# Altium integrated library CAP-CSGP_rev15b.intlib: 820 symbols (part 9 of 9)
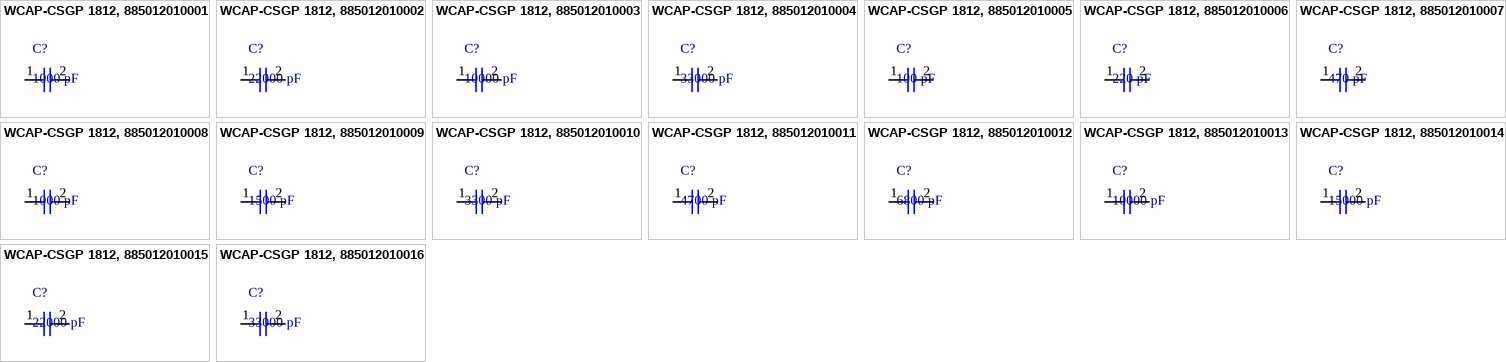
[diagram p36: symbols WCAP-CSGP 1812, 885012010001 to WCAP-CSGP 1812, 885012010016]

## WCAP-CSGP 1812, 885012010001
designator C?, comment 1000 pF
WCAP-CSGP MLCC, NP0, 1812, 1000 pF,16Vdc; Manufacturer: Wurth Elektronik; partNo: 885012010001; E-mail: libraries@we-online.com; ComponentLink1Description: Manufacturer; ComponentLink1URL: http://www.we-online.com; ComponentLink2Description: Datasheet; ComponentLink2URL: http://katalog.we-online.de/pbs/datasheet/885012010001.pdf; Created by: Karrer Zheng; Created Date: 3/9/2015; Capacitance: 1000 pF
footprint WCAP-CSGP 1812, H=1.25mm
pins: 1, 2

## WCAP-CSGP 1812, 885012010002
designator C?, comment 22000 pF
WCAP-CSGP MLCC, NP0, 1812, 22000 pF,16Vdc; Manufacturer: Wurth Elektronik; partNo: 885012010002; E-mail: libraries@we-online.com; ComponentLink1Description: Manufacturer; ComponentLink1URL: http://www.we-online.com; ComponentLink2Description: Datasheet; ComponentLink2URL: http://katalog.we-online.de/pbs/datasheet/885012010002.pdf; Created by: Karrer Zheng; Created Date: 3/9/2015; Capacitance: 22000 pF
footprint WCAP-CSGP 1812, H=1.25mm
pins: 1, 2

## WCAP-CSGP 1812, 885012010003
designator C?, comment 10000 pF
WCAP-CSGP MLCC, NP0, 1812, 10000 pF,25Vdc; Manufacturer: Wurth Elektronik; partNo: 885012010003; E-mail: libraries@we-online.com; ComponentLink1Description: Manufacturer; ComponentLink1URL: http://www.we-online.com; ComponentLink2Description: Datasheet; ComponentLink2URL: http://katalog.we-online.de/pbs/datasheet/885012010003.pdf; Created by: Karrer Zheng; Created Date: 3/9/2015; Capacitance: 10000 pF
footprint WCAP-CSGP 1812, H=1.25mm
pins: 1, 2

## WCAP-CSGP 1812, 885012010004
designator C?, comment 33000 pF
WCAP-CSGP MLCC, NP0, 1812, 33000 pF,25Vdc; Manufacturer: Wurth Elektronik; partNo: 885012010004; E-mail: libraries@we-online.com; ComponentLink1Description: Manufacturer; ComponentLink1URL: http://www.we-online.com; ComponentLink2Description: Datasheet; ComponentLink2URL: http://katalog.we-online.de/pbs/datasheet/885012010004.pdf; Created by: Karrer Zheng; Created Date: 3/9/2015; Capacitance: 33000 pF
footprint WCAP-CSGP 1812, H=1.25mm
pins: 1, 2

## WCAP-CSGP 1812, 885012010005
designator C?, comment 100 pF
WCAP-CSGP MLCC, NP0, 1812, 100 pF,50Vdc; Manufacturer: Wurth Elektronik; partNo: 885012010005; E-mail: libraries@we-online.com; ComponentLink1Description: Manufacturer; ComponentLink1URL: http://www.we-online.com; ComponentLink2Description: Datasheet; ComponentLink2URL: http://katalog.we-online.de/pbs/datasheet/885012010005.pdf; Created by: Karrer Zheng; Created Date: 3/9/2015; Capacitance: 100 pF
footprint WCAP-CSGP 1812, H=1.25mm
pins: 1, 2

## WCAP-CSGP 1812, 885012010006
designator C?, comment 220 pF
WCAP-CSGP MLCC, NP0, 1812, 220 pF,50Vdc; Manufacturer: Wurth Elektronik; partNo: 885012010006; E-mail: libraries@we-online.com; ComponentLink1Description: Manufacturer; ComponentLink1URL: http://www.we-online.com; ComponentLink2Description: Datasheet; ComponentLink2URL: http://katalog.we-online.de/pbs/datasheet/885012010006.pdf; Created by: Karrer Zheng; Created Date: 3/9/2015; Capacitance: 220 pF
footprint WCAP-CSGP 1812, H=1.25mm
pins: 1, 2

## WCAP-CSGP 1812, 885012010007
designator C?, comment 470 pF
WCAP-CSGP MLCC, NP0, 1812, 470 pF,50Vdc; Manufacturer: Wurth Elektronik; partNo: 885012010007; E-mail: libraries@we-online.com; ComponentLink1Description: Manufacturer; ComponentLink1URL: http://www.we-online.com; ComponentLink2Description: Datasheet; ComponentLink2URL: http://katalog.we-online.de/pbs/datasheet/885012010007.pdf; Created by: Karrer Zheng; Created Date: 3/9/2015; Capacitance: 470 pF
footprint WCAP-CSGP 1812, H=1.25mm
pins: 1, 2

## WCAP-CSGP 1812, 885012010008
designator C?, comment 1000 pF
WCAP-CSGP MLCC, NP0, 1812, 1000 pF,50Vdc; Manufacturer: Wurth Elektronik; partNo: 885012010008; E-mail: libraries@we-online.com; ComponentLink1Description: Manufacturer; ComponentLink1URL: http://www.we-online.com; ComponentLink2Description: Datasheet; ComponentLink2URL: http://katalog.we-online.de/pbs/datasheet/885012010008.pdf; Created by: Karrer Zheng; Created Date: 3/9/2015; Capacitance: 1000 pF
footprint WCAP-CSGP 1812, H=1.25mm
pins: 1, 2

## WCAP-CSGP 1812, 885012010009
designator C?, comment 1500 pF
WCAP-CSGP MLCC, NP0, 1812, 1500 pF,50Vdc; Manufacturer: Wurth Elektronik; partNo: 885012010009; E-mail: libraries@we-online.com; ComponentLink1Description: Manufacturer; ComponentLink1URL: http://www.we-online.com; ComponentLink2Description: Datasheet; ComponentLink2URL: http://katalog.we-online.de/pbs/datasheet/885012010009.pdf; Created by: Karrer Zheng; Created Date: 3/9/2015; Capacitance: 1500 pF
footprint WCAP-CSGP 1812, H=1.25mm
pins: 1, 2

## WCAP-CSGP 1812, 885012010010
designator C?, comment 3300 pF
WCAP-CSGP MLCC, NP0, 1812, 3300 pF,50Vdc; Manufacturer: Wurth Elektronik; partNo: 885012010010; E-mail: libraries@we-online.com; ComponentLink1Description: Manufacturer; ComponentLink1URL: http://www.we-online.com; ComponentLink2Description: Datasheet; ComponentLink2URL: http://katalog.we-online.de/pbs/datasheet/885012010010.pdf; Created by: Karrer Zheng; Created Date: 3/9/2015; Capacitance: 3300 pF
footprint WCAP-CSGP 1812, H=1.25mm
pins: 1, 2

## WCAP-CSGP 1812, 885012010011
designator C?, comment 4700 pF
WCAP-CSGP MLCC, NP0, 1812, 4700 pF,50Vdc; Manufacturer: Wurth Elektronik; partNo: 885012010011; E-mail: libraries@we-online.com; ComponentLink1Description: Manufacturer; ComponentLink1URL: http://www.we-online.com; ComponentLink2Description: Datasheet; ComponentLink2URL: http://katalog.we-online.de/pbs/datasheet/885012010011.pdf; Created by: Karrer Zheng; Created Date: 3/9/2015; Capacitance: 4700 pF
footprint WCAP-CSGP 1812, H=1.25mm
pins: 1, 2

## WCAP-CSGP 1812, 885012010012
designator C?, comment 6800 pF
WCAP-CSGP MLCC, NP0, 1812, 6800 pF,50Vdc; Manufacturer: Wurth Elektronik; partNo: 885012010012; E-mail: libraries@we-online.com; ComponentLink1Description: Manufacturer; ComponentLink1URL: http://www.we-online.com; ComponentLink2Description: Datasheet; ComponentLink2URL: http://katalog.we-online.de/pbs/datasheet/885012010012.pdf; Created by: Karrer Zheng; Created Date: 3/9/2015; Capacitance: 6800 pF
footprint WCAP-CSGP 1812, H=1.25mm
pins: 1, 2

## WCAP-CSGP 1812, 885012010013
designator C?, comment 10000 pF
WCAP-CSGP MLCC, NP0, 1812, 10000 pF,50Vdc; Manufacturer: Wurth Elektronik; partNo: 885012010013; E-mail: libraries@we-online.com; ComponentLink1Description: Manufacturer; ComponentLink1URL: http://www.we-online.com; ComponentLink2Description: Datasheet; ComponentLink2URL: http://katalog.we-online.de/pbs/datasheet/885012010013.pdf; Created by: Karrer Zheng; Created Date: 3/9/2015; Capacitance: 10000 pF
footprint WCAP-CSGP 1812, H=1.25mm
pins: 1, 2

## WCAP-CSGP 1812, 885012010014
designator C?, comment 15000 pF
WCAP-CSGP MLCC, NP0, 1812, 15000 pF,50Vdc; Manufacturer: Wurth Elektronik; partNo: 885012010014; E-mail: libraries@we-online.com; ComponentLink1Description: Manufacturer; ComponentLink1URL: http://www.we-online.com; ComponentLink2Description: Datasheet; ComponentLink2URL: http://katalog.we-online.de/pbs/datasheet/885012010014.pdf; Created by: Karrer Zheng; Created Date: 3/9/2015; Capacitance: 15000 pF
footprint WCAP-CSGP 1812, H=1.25mm
pins: 1, 2

## WCAP-CSGP 1812, 885012010015
designator C?, comment 22000 pF
WCAP-CSGP MLCC, NP0, 1812, 22000 pF,50Vdc; Manufacturer: Wurth Elektronik; partNo: 885012010015; E-mail: libraries@we-online.com; ComponentLink1Description: Manufacturer; ComponentLink1URL: http://www.we-online.com; ComponentLink2Description: Datasheet; ComponentLink2URL: http://katalog.we-online.de/pbs/datasheet/885012010015.pdf; Created by: Karrer Zheng; Created Date: 3/9/2015; Capacitance: 22000 pF
footprint WCAP-CSGP 1812, H=1.25mm
pins: 1, 2

## WCAP-CSGP 1812, 885012010016
designator C?, comment 33000 pF
WCAP-CSGP MLCC, NP0, 1812, 33000 pF,50Vdc; Manufacturer: Wurth Elektronik; partNo: 885012010016; E-mail: libraries@we-online.com; ComponentLink1Description: Manufacturer; ComponentLink1URL: http://www.we-online.com; ComponentLink2Description: Datasheet; ComponentLink2URL: http://katalog.we-online.de/pbs/datasheet/885012010016.pdf; Created by: Karrer Zheng; Created Date: 3/9/2015; Capacitance: 33000 pF
footprint WCAP-CSGP 1812, H=1.25mm
pins: 1, 2


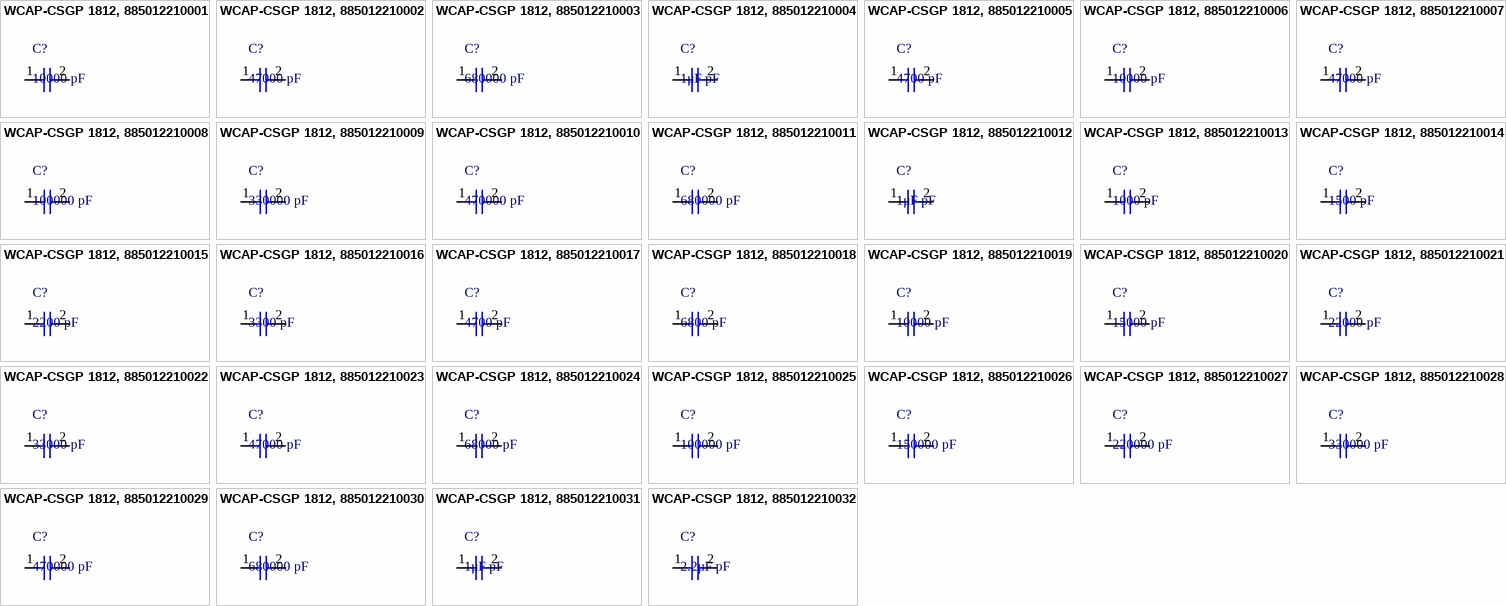
[diagram p28: symbols WCAP-CSGP 1812, 885012210001 to WCAP-CSGP 1812, 885012210032]

## WCAP-CSGP 1812, 885012210001
designator C?, comment 10000 pF
WCAP-CSGP MLCC, X7R, 1812, 10000 pF,16Vdc; Manufacturer: Wurth Elektronik; partNo: 885012210001; E-mail: libraries@we-online.com; ComponentLink1Description: Manufacturer; ComponentLink1URL: http://www.we-online.com; ComponentLink2Description: Datasheet; ComponentLink2URL: http://katalog.we-online.de/pbs/datasheet/885012210001.pdf; Created by: Karrer Zheng; Created Date: 3/9/2015; Capacitance: 10000 pF
footprint WCAP-CSGP 1812, H=1.25mm
pins: 1, 2

## WCAP-CSGP 1812, 885012210002
designator C?, comment 47000 pF
WCAP-CSGP MLCC, X7R, 1812, 47000 pF,16Vdc; Manufacturer: Wurth Elektronik; partNo: 885012210002; E-mail: libraries@we-online.com; ComponentLink1Description: Manufacturer; ComponentLink1URL: http://www.we-online.com; ComponentLink2Description: Datasheet; ComponentLink2URL: http://katalog.we-online.de/pbs/datasheet/885012210002.pdf; Created by: Karrer Zheng; Created Date: 3/9/2015; Capacitance: 47000 pF
footprint WCAP-CSGP 1812, H=1.25mm
pins: 1, 2

## WCAP-CSGP 1812, 885012210003
designator C?, comment 680000 pF
WCAP-CSGP MLCC, X7R, 1812, 680000 pF,16Vdc; Manufacturer: Wurth Elektronik; partNo: 885012210003; E-mail: libraries@we-online.com; ComponentLink1Description: Manufacturer; ComponentLink1URL: http://www.we-online.com; ComponentLink2Description: Datasheet; ComponentLink2URL: http://katalog.we-online.de/pbs/datasheet/885012210003.pdf; Created by: Karrer Zheng; Created Date: 3/9/2015; Capacitance: 680000 pF
footprint WCAP-CSGP 1812, H=1.25mm
pins: 1, 2

## WCAP-CSGP 1812, 885012210004
designator C?, comment 1μF pF
WCAP-CSGP MLCC, X7R, 1812, 1μF pF,16Vdc; Manufacturer: Wurth Elektronik; partNo: 885012210004; E-mail: libraries@we-online.com; ComponentLink1Description: Manufacturer; ComponentLink1URL: http://www.we-online.com; ComponentLink2Description: Datasheet; ComponentLink2URL: http://katalog.we-online.de/pbs/datasheet/885012210004.pdf; Created by: Karrer Zheng; Created Date: 3/9/2015; Capacitance: 1μF pF
footprint WCAP-CSGP 1812, H=1.25mm
pins: 1, 2

## WCAP-CSGP 1812, 885012210005
designator C?, comment 4700 pF
WCAP-CSGP MLCC, X7R, 1812, 4700 pF,25Vdc; Manufacturer: Wurth Elektronik; partNo: 885012210005; E-mail: libraries@we-online.com; ComponentLink1Description: Manufacturer; ComponentLink1URL: http://www.we-online.com; ComponentLink2Description: Datasheet; ComponentLink2URL: http://katalog.we-online.de/pbs/datasheet/885012210005.pdf; Created by: Karrer Zheng; Created Date: 3/9/2015; Capacitance: 4700 pF
footprint WCAP-CSGP 1812, H=1.25mm
pins: 1, 2

## WCAP-CSGP 1812, 885012210006
designator C?, comment 10000 pF
WCAP-CSGP MLCC, X7R, 1812, 10000 pF,25Vdc; Manufacturer: Wurth Elektronik; partNo: 885012210006; E-mail: libraries@we-online.com; ComponentLink1Description: Manufacturer; ComponentLink1URL: http://www.we-online.com; ComponentLink2Description: Datasheet; ComponentLink2URL: http://katalog.we-online.de/pbs/datasheet/885012210006.pdf; Created by: Karrer Zheng; Created Date: 3/9/2015; Capacitance: 10000 pF
footprint WCAP-CSGP 1812, H=1.25mm
pins: 1, 2

## WCAP-CSGP 1812, 885012210007
designator C?, comment 47000 pF
WCAP-CSGP MLCC, X7R, 1812, 47000 pF,25Vdc; Manufacturer: Wurth Elektronik; partNo: 885012210007; E-mail: libraries@we-online.com; ComponentLink1Description: Manufacturer; ComponentLink1URL: http://www.we-online.com; ComponentLink2Description: Datasheet; ComponentLink2URL: http://katalog.we-online.de/pbs/datasheet/885012210007.pdf; Created by: Karrer Zheng; Created Date: 3/9/2015; Capacitance: 47000 pF
footprint WCAP-CSGP 1812, H=1.25mm
pins: 1, 2

## WCAP-CSGP 1812, 885012210008
designator C?, comment 100000 pF
WCAP-CSGP MLCC, X7R, 1812, 100000 pF,25Vdc; Manufacturer: Wurth Elektronik; partNo: 885012210008; E-mail: libraries@we-online.com; ComponentLink1Description: Manufacturer; ComponentLink1URL: http://www.we-online.com; ComponentLink2Description: Datasheet; ComponentLink2URL: http://katalog.we-online.de/pbs/datasheet/885012210008.pdf; Created by: Karrer Zheng; Created Date: 3/9/2015; Capacitance: 100000 pF
footprint WCAP-CSGP 1812, H=1.25mm
pins: 1, 2

## WCAP-CSGP 1812, 885012210009
designator C?, comment 330000 pF
WCAP-CSGP MLCC, X7R, 1812, 330000 pF,25Vdc; Manufacturer: Wurth Elektronik; partNo: 885012210009; E-mail: libraries@we-online.com; ComponentLink1Description: Manufacturer; ComponentLink1URL: http://www.we-online.com; ComponentLink2Description: Datasheet; ComponentLink2URL: http://katalog.we-online.de/pbs/datasheet/885012210009.pdf; Created by: Karrer Zheng; Created Date: 3/9/2015; Capacitance: 330000 pF
footprint WCAP-CSGP 1812, H=1.25mm
pins: 1, 2

## WCAP-CSGP 1812, 885012210010
designator C?, comment 470000 pF
WCAP-CSGP MLCC, X7R, 1812, 470000 pF,25Vdc; Manufacturer: Wurth Elektronik; partNo: 885012210010; E-mail: libraries@we-online.com; ComponentLink1Description: Manufacturer; ComponentLink1URL: http://www.we-online.com; ComponentLink2Description: Datasheet; ComponentLink2URL: http://katalog.we-online.de/pbs/datasheet/885012210010.pdf; Created by: Karrer Zheng; Created Date: 3/9/2015; Capacitance: 470000 pF
footprint WCAP-CSGP 1812, H=1.25mm
pins: 1, 2

## WCAP-CSGP 1812, 885012210011
designator C?, comment 680000 pF
WCAP-CSGP MLCC, X7R, 1812, 680000 pF,25Vdc; Manufacturer: Wurth Elektronik; partNo: 885012210011; E-mail: libraries@we-online.com; ComponentLink1Description: Manufacturer; ComponentLink1URL: http://www.we-online.com; ComponentLink2Description: Datasheet; ComponentLink2URL: http://katalog.we-online.de/pbs/datasheet/885012210011.pdf; Created by: Karrer Zheng; Created Date: 3/9/2015; Capacitance: 680000 pF
footprint WCAP-CSGP 1812, H=1.25mm
pins: 1, 2

## WCAP-CSGP 1812, 885012210012
designator C?, comment 1μF pF
WCAP-CSGP MLCC, X7R, 1812, 1μF pF,25Vdc; Manufacturer: Wurth Elektronik; partNo: 885012210012; E-mail: libraries@we-online.com; ComponentLink1Description: Manufacturer; ComponentLink1URL: http://www.we-online.com; ComponentLink2Description: Datasheet; ComponentLink2URL: http://katalog.we-online.de/pbs/datasheet/885012210012.pdf; Created by: Karrer Zheng; Created Date: 3/9/2015; Capacitance: 1μF pF
footprint WCAP-CSGP 1812, H=1.25mm
pins: 1, 2

## WCAP-CSGP 1812, 885012210013
designator C?, comment 1000 pF
WCAP-CSGP MLCC, X7R, 1812, 1000 pF,50Vdc; Manufacturer: Wurth Elektronik; partNo: 885012210013; E-mail: libraries@we-online.com; ComponentLink1Description: Manufacturer; ComponentLink1URL: http://www.we-online.com; ComponentLink2Description: Datasheet; ComponentLink2URL: http://katalog.we-online.de/pbs/datasheet/885012210013.pdf; Created by: Karrer Zheng; Created Date: 3/9/2015; Capacitance: 1000 pF
footprint WCAP-CSGP 1812, H=1.25mm
pins: 1, 2

## WCAP-CSGP 1812, 885012210014
designator C?, comment 1500 pF
WCAP-CSGP MLCC, X7R, 1812, 1500 pF,50Vdc; Manufacturer: Wurth Elektronik; partNo: 885012210014; E-mail: libraries@we-online.com; ComponentLink1Description: Manufacturer; ComponentLink1URL: http://www.we-online.com; ComponentLink2Description: Datasheet; ComponentLink2URL: http://katalog.we-online.de/pbs/datasheet/885012210014.pdf; Created by: Karrer Zheng; Created Date: 3/9/2015; Capacitance: 1500 pF
footprint WCAP-CSGP 1812, H=1.25mm
pins: 1, 2

## WCAP-CSGP 1812, 885012210015
designator C?, comment 2200 pF
WCAP-CSGP MLCC, X7R, 1812, 2200 pF,50Vdc; Manufacturer: Wurth Elektronik; partNo: 885012210015; E-mail: libraries@we-online.com; ComponentLink1Description: Manufacturer; ComponentLink1URL: http://www.we-online.com; ComponentLink2Description: Datasheet; ComponentLink2URL: http://katalog.we-online.de/pbs/datasheet/885012210015.pdf; Created by: Karrer Zheng; Created Date: 3/9/2015; Capacitance: 2200 pF
footprint WCAP-CSGP 1812, H=1.25mm
pins: 1, 2

## WCAP-CSGP 1812, 885012210016
designator C?, comment 3300 pF
WCAP-CSGP MLCC, X7R, 1812, 3300 pF,50Vdc; Manufacturer: Wurth Elektronik; partNo: 885012210016; E-mail: libraries@we-online.com; ComponentLink1Description: Manufacturer; ComponentLink1URL: http://www.we-online.com; ComponentLink2Description: Datasheet; ComponentLink2URL: http://katalog.we-online.de/pbs/datasheet/885012210016.pdf; Created by: Karrer Zheng; Created Date: 3/9/2015; Capacitance: 3300 pF
footprint WCAP-CSGP 1812, H=1.25mm
pins: 1, 2

## WCAP-CSGP 1812, 885012210017
designator C?, comment 4700 pF
WCAP-CSGP MLCC, X7R, 1812, 4700 pF,50Vdc; Manufacturer: Wurth Elektronik; partNo: 885012210017; E-mail: libraries@we-online.com; ComponentLink1Description: Manufacturer; ComponentLink1URL: http://www.we-online.com; ComponentLink2Description: Datasheet; ComponentLink2URL: http://katalog.we-online.de/pbs/datasheet/885012210017.pdf; Created by: Karrer Zheng; Created Date: 3/9/2015; Capacitance: 4700 pF
footprint WCAP-CSGP 1812, H=1.25mm
pins: 1, 2

## WCAP-CSGP 1812, 885012210018
designator C?, comment 6800 pF
WCAP-CSGP MLCC, X7R, 1812, 6800 pF,50Vdc; Manufacturer: Wurth Elektronik; partNo: 885012210018; E-mail: libraries@we-online.com; ComponentLink1Description: Manufacturer; ComponentLink1URL: http://www.we-online.com; ComponentLink2Description: Datasheet; ComponentLink2URL: http://katalog.we-online.de/pbs/datasheet/885012210018.pdf; Created by: Karrer Zheng; Created Date: 3/9/2015; Capacitance: 6800 pF
footprint WCAP-CSGP 1812, H=1.25mm
pins: 1, 2

## WCAP-CSGP 1812, 885012210019
designator C?, comment 10000 pF
WCAP-CSGP MLCC, X7R, 1812, 10000 pF,50Vdc; Manufacturer: Wurth Elektronik; partNo: 885012210019; E-mail: libraries@we-online.com; ComponentLink1Description: Manufacturer; ComponentLink1URL: http://www.we-online.com; ComponentLink2Description: Datasheet; ComponentLink2URL: http://katalog.we-online.de/pbs/datasheet/885012210019.pdf; Created by: Karrer Zheng; Created Date: 3/9/2015; Capacitance: 10000 pF
footprint WCAP-CSGP 1812, H=1.25mm
pins: 1, 2

## WCAP-CSGP 1812, 885012210020
designator C?, comment 15000 pF
WCAP-CSGP MLCC, X7R, 1812, 15000 pF,50Vdc; Manufacturer: Wurth Elektronik; partNo: 885012210020; E-mail: libraries@we-online.com; ComponentLink1Description: Manufacturer; ComponentLink1URL: http://www.we-online.com; ComponentLink2Description: Datasheet; ComponentLink2URL: http://katalog.we-online.de/pbs/datasheet/885012210020.pdf; Created by: Karrer Zheng; Created Date: 3/9/2015; Capacitance: 15000 pF
footprint WCAP-CSGP 1812, H=1.25mm
pins: 1, 2

## WCAP-CSGP 1812, 885012210021
designator C?, comment 22000 pF
WCAP-CSGP MLCC, X7R, 1812, 22000 pF,50Vdc; Manufacturer: Wurth Elektronik; partNo: 885012210021; E-mail: libraries@we-online.com; ComponentLink1Description: Manufacturer; ComponentLink1URL: http://www.we-online.com; ComponentLink2Description: Datasheet; ComponentLink2URL: http://katalog.we-online.de/pbs/datasheet/885012210021.pdf; Created by: Karrer Zheng; Created Date: 3/9/2015; Capacitance: 22000 pF
footprint WCAP-CSGP 1812, H=1.25mm
pins: 1, 2

## WCAP-CSGP 1812, 885012210022
designator C?, comment 33000 pF
WCAP-CSGP MLCC, X7R, 1812, 33000 pF,50Vdc; Manufacturer: Wurth Elektronik; partNo: 885012210022; E-mail: libraries@we-online.com; ComponentLink1Description: Manufacturer; ComponentLink1URL: http://www.we-online.com; ComponentLink2Description: Datasheet; ComponentLink2URL: http://katalog.we-online.de/pbs/datasheet/885012210022.pdf; Created by: Karrer Zheng; Created Date: 3/9/2015; Capacitance: 33000 pF
footprint WCAP-CSGP 1812, H=1.25mm
pins: 1, 2

## WCAP-CSGP 1812, 885012210023
designator C?, comment 47000 pF
WCAP-CSGP MLCC, X7R, 1812, 47000 pF,50Vdc; Manufacturer: Wurth Elektronik; partNo: 885012210023; E-mail: libraries@we-online.com; ComponentLink1Description: Manufacturer; ComponentLink1URL: http://www.we-online.com; ComponentLink2Description: Datasheet; ComponentLink2URL: http://katalog.we-online.de/pbs/datasheet/885012210023.pdf; Created by: Karrer Zheng; Created Date: 3/9/2015; Capacitance: 47000 pF
footprint WCAP-CSGP 1812, H=1.25mm
pins: 1, 2

## WCAP-CSGP 1812, 885012210024
designator C?, comment 68000 pF
WCAP-CSGP MLCC, X7R, 1812, 68000 pF,50Vdc; Manufacturer: Wurth Elektronik; partNo: 885012210024; E-mail: libraries@we-online.com; ComponentLink1Description: Manufacturer; ComponentLink1URL: http://www.we-online.com; ComponentLink2Description: Datasheet; ComponentLink2URL: http://katalog.we-online.de/pbs/datasheet/885012210024.pdf; Created by: Karrer Zheng; Created Date: 3/9/2015; Capacitance: 68000 pF
footprint WCAP-CSGP 1812, H=1.25mm
pins: 1, 2

## WCAP-CSGP 1812, 885012210025
designator C?, comment 100000 pF
WCAP-CSGP MLCC, X7R, 1812, 100000 pF,50Vdc; Manufacturer: Wurth Elektronik; partNo: 885012210025; E-mail: libraries@we-online.com; ComponentLink1Description: Manufacturer; ComponentLink1URL: http://www.we-online.com; ComponentLink2Description: Datasheet; ComponentLink2URL: http://katalog.we-online.de/pbs/datasheet/885012210025.pdf; Created by: Karrer Zheng; Created Date: 3/9/2015; Capacitance: 100000 pF
footprint WCAP-CSGP 1812, H=1.25mm
pins: 1, 2

## WCAP-CSGP 1812, 885012210026
designator C?, comment 150000 pF
WCAP-CSGP MLCC, X7R, 1812, 150000 pF,50Vdc; Manufacturer: Wurth Elektronik; partNo: 885012210026; E-mail: libraries@we-online.com; ComponentLink1Description: Manufacturer; ComponentLink1URL: http://www.we-online.com; ComponentLink2Description: Datasheet; ComponentLink2URL: http://katalog.we-online.de/pbs/datasheet/885012210026.pdf; Created by: Karrer Zheng; Created Date: 3/9/2015; Capacitance: 150000 pF
footprint WCAP-CSGP 1812, H=1.25mm
pins: 1, 2

## WCAP-CSGP 1812, 885012210027
designator C?, comment 220000 pF
WCAP-CSGP MLCC, X7R, 1812, 220000 pF,50Vdc; Manufacturer: Wurth Elektronik; partNo: 885012210027; E-mail: libraries@we-online.com; ComponentLink1Description: Manufacturer; ComponentLink1URL: http://www.we-online.com; ComponentLink2Description: Datasheet; ComponentLink2URL: http://katalog.we-online.de/pbs/datasheet/885012210027.pdf; Created by: Karrer Zheng; Created Date: 3/9/2015; Capacitance: 220000 pF
footprint WCAP-CSGP 1812, H=1.25mm
pins: 1, 2

## WCAP-CSGP 1812, 885012210028
designator C?, comment 330000 pF
WCAP-CSGP MLCC, X7R, 1812, 330000 pF,50Vdc; Manufacturer: Wurth Elektronik; partNo: 885012210028; E-mail: libraries@we-online.com; ComponentLink1Description: Manufacturer; ComponentLink1URL: http://www.we-online.com; ComponentLink2Description: Datasheet; ComponentLink2URL: http://katalog.we-online.de/pbs/datasheet/885012210028.pdf; Created by: Karrer Zheng; Created Date: 3/9/2015; Capacitance: 330000 pF
footprint WCAP-CSGP 1812, H=1.25mm
pins: 1, 2

## WCAP-CSGP 1812, 885012210029
designator C?, comment 470000 pF
WCAP-CSGP MLCC, X7R, 1812, 470000 pF,50Vdc; Manufacturer: Wurth Elektronik; partNo: 885012210029; E-mail: libraries@we-online.com; ComponentLink1Description: Manufacturer; ComponentLink1URL: http://www.we-online.com; ComponentLink2Description: Datasheet; ComponentLink2URL: http://katalog.we-online.de/pbs/datasheet/885012210029.pdf; Created by: Karrer Zheng; Created Date: 3/9/2015; Capacitance: 470000 pF
footprint WCAP-CSGP 1812, H=1.25mm
pins: 1, 2

## WCAP-CSGP 1812, 885012210030
designator C?, comment 680000 pF
WCAP-CSGP MLCC, X7R, 1812, 680000 pF,50Vdc; Manufacturer: Wurth Elektronik; partNo: 885012210030; E-mail: libraries@we-online.com; ComponentLink1Description: Manufacturer; ComponentLink1URL: http://www.we-online.com; ComponentLink2Description: Datasheet; ComponentLink2URL: http://katalog.we-online.de/pbs/datasheet/885012210030.pdf; Created by: Karrer Zheng; Created Date: 3/9/2015; Capacitance: 680000 pF
footprint WCAP-CSGP 1812, H=2mm
pins: 1, 2

## WCAP-CSGP 1812, 885012210031
designator C?, comment 1μF pF
WCAP-CSGP MLCC, X7R, 1812, 1μF pF,50Vdc; Manufacturer: Wurth Elektronik; partNo: 885012210031; E-mail: libraries@we-online.com; ComponentLink1Description: Manufacturer; ComponentLink1URL: http://www.we-online.com; ComponentLink2Description: Datasheet; ComponentLink2URL: http://katalog.we-online.de/pbs/datasheet/885012210031.pdf; Created by: Karrer Zheng; Created Date: 3/9/2015; Capacitance: 1μF pF
footprint WCAP-CSGP 1812, H=2mm
pins: 1, 2

## WCAP-CSGP 1812, 885012210032
designator C?, comment 2.2μF pF
WCAP-CSGP MLCC, X7R, 1812, 2.2μF pF,50Vdc; Manufacturer: Wurth Elektronik; partNo: 885012210032; E-mail: libraries@we-online.com; ComponentLink1Description: Manufacturer; ComponentLink1URL: http://www.we-online.com; ComponentLink2Description: Datasheet; ComponentLink2URL: http://katalog.we-online.de/pbs/datasheet/885012210032.pdf; Created by: Karrer Zheng; Created Date: 3/9/2015; Capacitance: 2.2μF pF
footprint WCAP-CSGP 1812, H=2.5mm
pins: 1, 2